# EAGLE library part MMC (library SD)
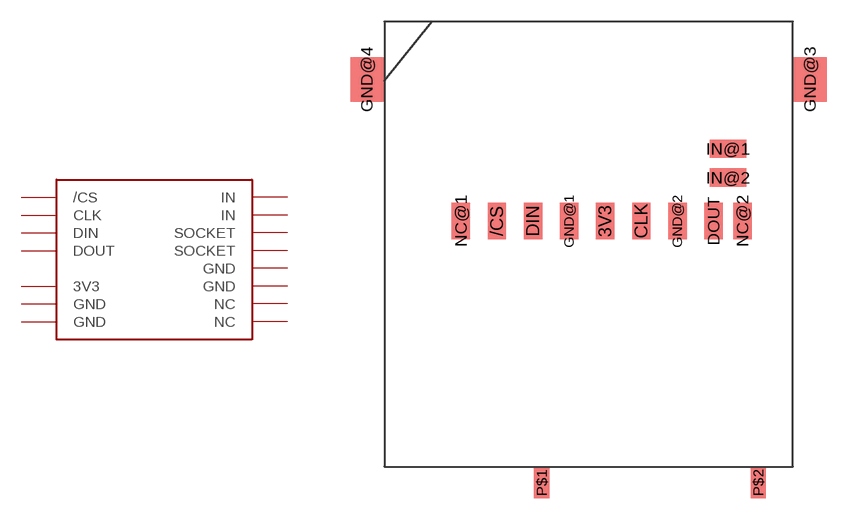
[diagram p0: symbol with the pads of MMC_SOCKET; footprint MMC_SOCKET]

Designator prefix -

## MMC  [MMC_SOCKET]
3V3  3V3  sup
/CS  /CS  in
CLK  CLK  in
DIN  DIN  in
DOUT  DOUT  out
GND@1  GND  sup
GND@2  GND  sup
GND@3  GND  sup
GND@4  GND  sup
IN@1  IN  in
IN@2  IN  in
NC@1  NC  nc
NC@2  NC  nc
P$1  SOCKET  in
P$2  SOCKET  in

## Footprint MMC_SOCKET (pad centres in mm)
smd 1.27 x 2.54: 3V3 1.5,4; /CS -6,4; CLK 4,4; DIN -3.5,4; DOUT 9,4; GND@1 -1,4; GND@2 6.5,4; NC@1 -8.5,4; NC@2 11,4
smd 2.3 x 3.1: GND@3 15.7,13.8; GND@4 -15,13.8
smd 2.54 x 1.27: IN@1 10,9; IN@2 10,7
smd 1.067 x 2.184: P$1 -2.9,-14.1; P$2 12.1,-14.1